# EAGLE library part ADIS1620 (library acceleration_inclination)
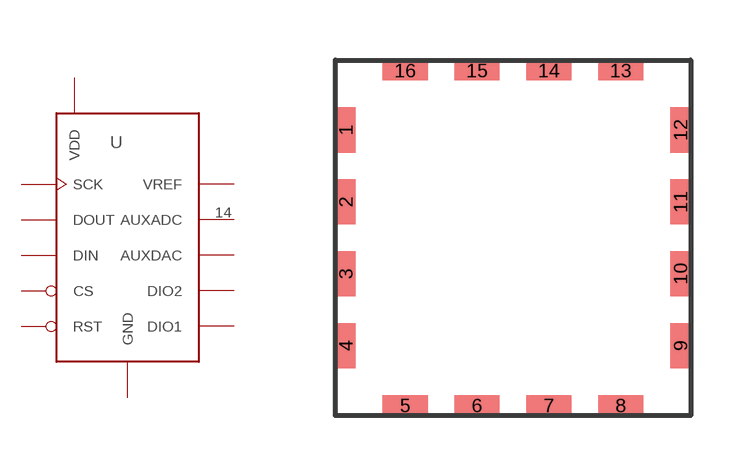
[diagram p2: symbol with the pads of ADIS20; footprint ADIS20]

Designator prefix -

## ADIS1620  [ADIS20]
1  SCK
2  DOUT
3  DIN
4  CS
5  DIO1
6  DIO2
9  RST
12  AUXDAC  out
13  VDD  pwr
14  AUXADC
15  VREF
16  GND  pwr

## Footprint ADIS20 (pad centres in mm)
smd 0.5 x 1.127: 1 -4.186,2.695; 2 -4.186,0.898; 3 -4.186,-0.898; 4 -4.186,-2.695; 9 4.186,-2.695; 10 4.186,-0.898; 11 4.186,0.898; 12 4.186,2.695
smd 1.127 x 0.5: 5 -2.695,-4.186; 6 -0.898,-4.186; 7 0.898,-4.186; 8 2.695,-4.186; 13 2.695,4.186; 14 0.898,4.186; 15 -0.898,4.186; 16 -2.695,4.186